# Altium footprint library Components.PcbLib: 155 footprints (part 2 of 10)
Each footprint in its own frame and in the unit in brackets; x right, y up, seen from the top. Pads: shape width x height; smd on the part's side, far side on the other; paste and mask are expansions set on the pad; w line width, h text height; cw(c..) or ccw(c..) is an arc to the next point about the centre after c.
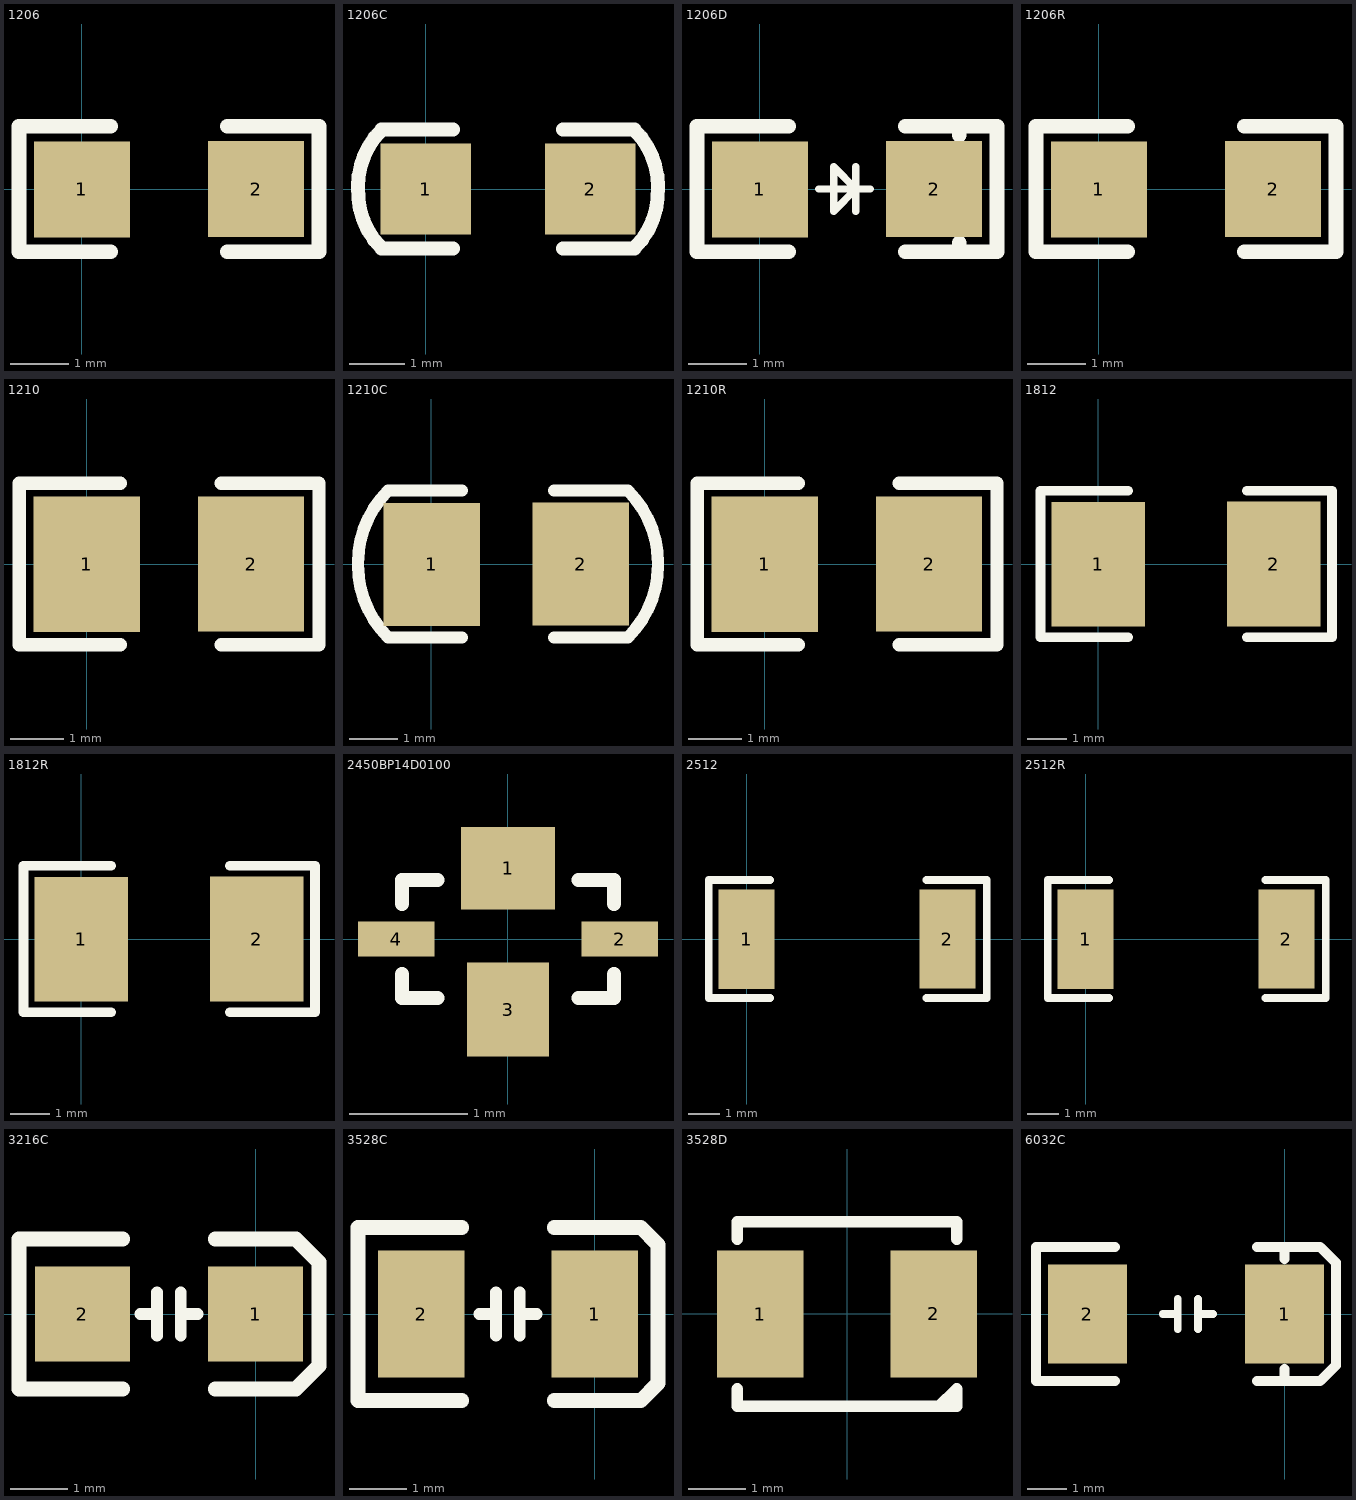
[diagram p1: the footprints below, top view; thin cyan lines are the x and y axes]

## 1206 [mm] "3.2*1.6mm"
pads (2):
  rect 1.65x1.65 smd: 1(0.003,-0.008) 2(3,0)
Top Overlay:
  lines w0.254: 0.5,-1.08 -1.08,-1.08 -1.08,1.08 0.5,1.08 ; 2.5,-1.08 4.064,-1.08 ; 2.5,1.08 4.08,1.08 4.08,-1.08

## 1206C [mm] "3.2*1.6mm"
pads (2):
  rect 1.65x1.65 smd: 1(0,0) 2(3,0)
Top Overlay:
  lines w0.254: -1.23,0.042 cw(c0.238,0.042) -0.8,1.08 0.5,1.08 ; -1.228,0.042 ccw(c0.238,-0.042) -0.8,-1.08 0.5,-1.08 ; 2.5,-1.08 3.8,-1.08 ccw(c2.762,-0.042) 4.228,0.042 ; 2.5,1.08 3.8,1.08 cw(c2.762,0.042) 4.23,0.042

## 1206D [mm] "3.2*1.6mm"
pads (2):
  rect 1.65x1.65 smd: 1(0.003,-0.008) 2(3,0)
Top Overlay:
  lines w0.127: 1.016,0 1.905,0 ; 1.651,-0.381 1.651,0.381 ; 1.27,-0.381 1.27,0.381 1.651,0 1.27,-0.381
  lines w0.254: 0.5,-1.08 -1.08,-1.08 -1.08,1.08 0.5,1.08 ; 2.5,-1.08 4.08,-1.08 4.08,1.08 2.5,1.08 ; 3.429,-1.08 3.429,-0.93 ; 3.429,0.93 3.429,1.08

## 1206R [mm] "3.2*1.6mm"
pads (2):
  rect 1.65x1.65 smd: 1(0.003,-0.008) 2(3,0)
Top Overlay:
  lines w0.254: 0.5,-1.08 -1.08,-1.08 -1.08,1.08 0.5,1.08 ; 2.5,-1.08 4.064,-1.08 ; 2.5,1.08 4.08,1.08 4.08,-1.08

## 1210 [mm] "3.2*2.5mm"
pads (2):
  rect 2x2.55 smd: 1(0.003,-0.008) 2(3.1,0)
Top Overlay:
  lines w0.254: 0.635,-1.524 -1.27,-1.524 -1.27,1.524 0.635,1.524 ; 2.54,-1.524 4.38,-1.524 4.38,1.524 2.54,1.524

## 1210C [mm] "3.2*2.5mm"
pads (2):
  rect 2x2.55 smd: 1(0.003,-0.008) 2(3.1,0)
Top Overlay:
  lines w0.254: 0.635,-1.524 -0.9,-1.524 cw(c0.606,-0.018) -1.524,-0.018 -1.524,0.018 cw(c0.606,0.018) -0.9,1.524 0.635,1.524 ; 2.54,-1.524 4.075,-1.524 ccw(c2.569,-0.018) 4.699,-0.018 ; 2.54,1.524 4.075,1.524 cw(c2.569,0.018) 4.699,0.018

## 1210R [mm] "3.2*2.5mm"
pads (2):
  rect 2x2.55 smd: 1(0.003,-0.008) 2(3.1,0)
Top Overlay:
  lines w0.254: 0.635,-1.524 -1.27,-1.524 -1.27,1.524 0.635,1.524 ; 2.54,-1.524 4.38,-1.524 4.38,1.524 2.54,1.524

## 1812 [mm] "4.8*3.2mm"
pads (2):
  rect 2.4x3.2 smd: 1(0.003,-0.008) 2(4.5,0)
Top Overlay:
  lines w0.254: 0.762,-1.88 -1.48,-1.88 -1.48,1.88 0.762,1.88 ; 3.81,-1.88 6,-1.88 6,1.88 3.81,1.88

## 1812R [mm] "4.8*3.2mm"
pads (2):
  rect 2.4x3.2 smd: 1(0.003,-0.008) 2(4.5,0)
Top Overlay:
  lines w0.254: 0.762,-1.88 -1.48,-1.88 -1.48,1.88 0.762,1.88 ; 3.81,-1.88 6,-1.88 6,1.88 3.81,1.88

## 2450BP14D0100 [mm] "2450BP14D0100   RF  Filter"
pads (4):
  rect 0.8x0.7 smd: 1(0,0.6)
  rect 0.65x0.3 smd: 2(0.95,0) 4(-0.95,0)
  rect 0.7x0.8 smd: 3(0,-0.6)
Top Overlay:
  lines w0.12: -0.9,-0.3 -0.9,-0.5 -0.6,-0.5 ; -0.9,0.3 -0.9,0.5 -0.6,0.5 ; 0.6,-0.5 0.9,-0.5 0.9,-0.3 ; 0.6,0.5 0.9,0.5 0.9,0.3

## 2512 [mm] "6.35*3.2mm"
pads (2):
  rect 1.8x3.2 smd: 1(0.003,-0.008) 2(6.48,0)
Top Overlay:
  lines w0.254: 0.762,-1.9 -1.22,-1.9 -1.22,1.9 0.762,1.9 ; 5.8,-1.9 7.75,-1.9 7.75,1.9 5.8,1.9

## 2512R [mm] "6.35*3.2mm"
pads (2):
  rect 1.8x3.2 smd: 1(0.003,-0.008) 2(6.48,0)
Top Overlay:
  lines w0.254: 0.762,-1.9 -1.22,-1.9 -1.22,1.9 0.762,1.9 ; 5.8,-1.9 7.75,-1.9 7.75,1.9 5.8,1.9

## 3216C [mm] "32*16mm"
pads (2):
  rect 1.65x1.65 smd: 1(0,0) 2(-3,0)
Top Overlay:
  lines w0.2: -2,0 -1.808,0 ; -1.708,-0.381 -1.708,0.381 ; -1.3,-0.381 -1.3,0.381 ; -1.3,0 -1,0
  lines w0.254: -2.3,-1.3 -4.1,-1.3 -4.1,1.3 -2.3,1.3 ; -0.7,-1.3 0.7,-1.3 1.1,-0.9 1.1,0.9 0.7,1.3 -0.7,1.3

## 3528C [mm] "35*28mm"
pads (2):
  rect 1.5x2.2 smd: 1(0,0) 2(-3,0)
Top Overlay:
  lines w0.2: -2,0 -1.808,0 ; -1.708,-0.381 -1.708,0.381 ; -1.3,-0.381 -1.3,0.381 ; -1.3,0 -1,0
  lines w0.254: -2.3,-1.5 -4.1,-1.5 -4.1,1.5 -2.3,1.5 ; -0.7,-1.5 0.8,-1.5 1.1,-1.2 1.1,1.2 0.8,1.5 -0.7,1.5

## 3528D [mm] "35*28mm LED"
pads (2):
  rect 1.5x2.2 smd: 1(-1.5,0) 2(1.5,0)
Top Overlay:
  lines w0.2: -1.9,-1.3 -1.9,-1.6 1.9,-1.6 1.9,-1.3 1.6,-1.6 1.5,-1.6 ; -1.9,1.3 -1.9,1.6 1.9,1.6 1.9,1.3

## 6032C [mm] "60*32mm"
pads (2):
  rect 2x2.5 smd: 1(0,0) 2(-5,0)
Top Overlay:
  lines w0.2: -3.089,0 -2.708,0 ; -2.708,-0.381 -2.708,0.381 ; -2.2,-0.381 -2.2,0.381 ; -2.2,0 -1.819,0
  lines w0.254: -4.3,-1.7 -6.3,-1.7 -6.3,1.7 -4.3,1.7 ; -0.7,-1.7 0.9,-1.7 1.3,-1.3 1.3,1.3 0.9,1.7 -0.7,1.7 ; 0,-1.7 0,-1.4 ; 0,1.4 0,1.7